# EAGLE library part LSM9DS0 (library Kas-Sensors)
LSM9DS0 9D sensor iNEMO inertial module:3D accelerometer, 3D gyroscope, 3D magnetometer
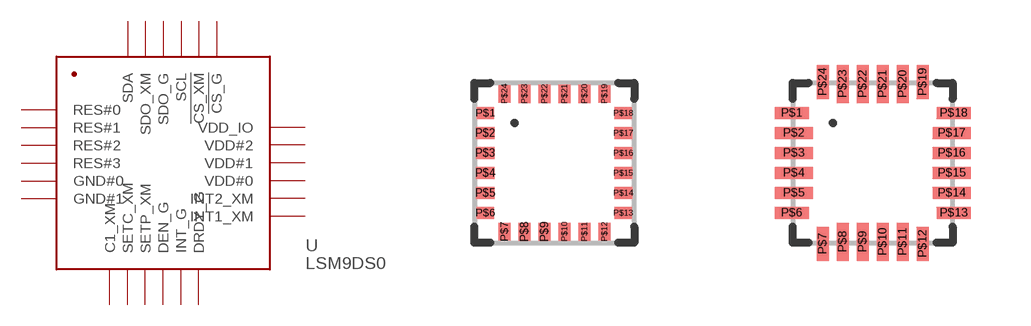
[diagram p10: symbol with the pads of LGA-24(4X4); footprints LGA-24(4X4), LGA-24(4X4)_HS]

Designator prefix U

## LSM9DS0  [LGA-24(4X4)]
P$1  RES#0
P$2  RES#1
P$3  RES#2
P$4  RES#3
P$5  GND#0
P$6  GND#1
P$7  C1_XM
P$8  SETC_XM
P$9  SETP_XM
P$10  DEN_G
P$11  INT_G
P$12  DRDY_G
P$13  INT1_XM
P$14  INT2_XM
P$15  VDD#0
P$16  VDD#1
P$17  VDD#2
P$18  VDD_IO
P$19  !CS_G
P$20  !CS_XM
P$21  SCL
P$22  SDO_G
P$23  SDO_XM
P$24  SDA

## LSM9DS0_HS  [LGA-24(4X4)_HS]
Pads as for LGA-24(4X4)

## Footprint LGA-24(4X4) (pad centres in mm)
smd 0.432 x 0.3: P$1 -1.725,1.25; P$6 -1.725,-1.25; P$13 1.725,-1.25; P$18 1.725,1.25
smd 0.45 x 0.3: P$2 -1.725,0.75; P$3 -1.725,0.25; P$4 -1.725,-0.25; P$5 -1.725,-0.75; P$14 1.725,-0.75; P$15 1.725,-0.25; P$16 1.725,0.25; P$17 1.725,0.75
smd 0.3 x 0.432: P$7 -1.25,-1.725; P$12 1.25,-1.725; P$19 1.25,1.725; P$24 -1.25,1.725
smd 0.3 x 0.45: P$8 -0.75,-1.725; P$9 -0.25,-1.725; P$10 0.25,-1.725; P$11 0.75,-1.725; P$20 0.75,1.725; P$21 0.25,1.725; P$22 -0.25,1.725; P$23 -0.75,1.725

## Footprint LGA-24(4X4)_HS (pad centres in mm)
smd 0.85 x 0.3: P$1 -2.025,1.25; P$6 -2.025,-1.25; P$13 2.025,-1.25; P$18 2.025,1.25
smd 0.95 x 0.3: P$2 -1.975,0.75; P$3 -1.975,0.25; P$4 -1.975,-0.25; P$5 -1.975,-0.75; P$14 1.975,-0.75; P$15 1.975,-0.25; P$16 1.975,0.25; P$17 1.975,0.75
smd 0.3 x 0.85: P$7 -1.25,-2.025; P$12 1.25,-2.025; P$19 1.25,2.025; P$24 -1.25,2.025
smd 0.3 x 0.95: P$8 -0.75,-1.975; P$9 -0.25,-1.975; P$10 0.25,-1.975; P$11 0.75,-1.975; P$20 0.75,1.975; P$21 0.25,1.975; P$22 -0.25,1.975; P$23 -0.75,1.975